# Altium schematic symbol library espardino_xpress_schematics.SchLib: 2 symbols
Pins are listed as number, name and electrical type; pins without a type are passive.

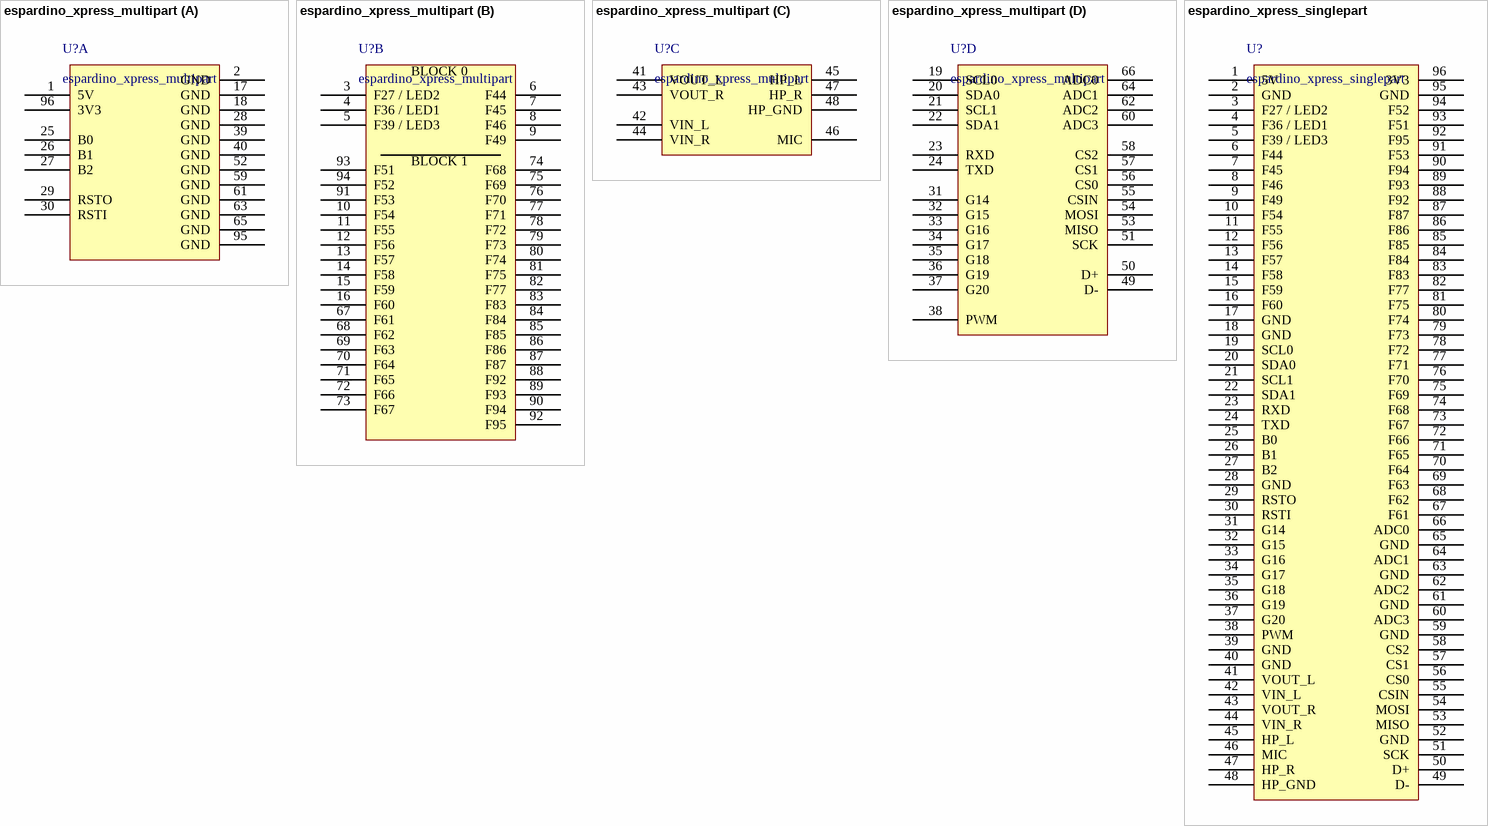
[diagram p0: symbols espardino_xpress_multipart to espardino_xpress_singlepart]

## espardino_xpress_multipart
designator U?
espardino_xpress schematic multipart
part A pins: 1 5V, 2 GND, 17 GND, 18 GND, 25 B0, 26 B1, 27 B2, 28 GND, 29 RSTO, 30 RSTI, 39 GND, 40 GND, 52 GND, 59 GND, 61 GND, 63 GND, 65 GND, 95 GND, 96 3V3
part B pins: 3 F27 / LED2, 4 F36 / LED1, 5 F39 / LED3, 6 F44, 7 F45, 8 F46, 9 F49, 10 F54, 11 F55, 12 F56, 13 F57, 14 F58, 15 F59, 16 F60, 67 F61, 68 F62, 69 F63, 70 F64, 71 F65, 72 F66, 73 F67, 74 F68, 75 F69, 76 F70, 77 F71, 78 F72, 79 F73, 80 F74, 81 F75, 82 F77, 83 F83, 84 F84, 85 F85, 86 F86, 87 F87, 88 F92, 89 F93, 90 F94, 91 F53, 92 F95, 93 F51, 94 F52
part C pins: 41 VOUT_L, 42 VIN_L, 43 VOUT_R, 44 VIN_R, 45 HP_L, 46 MIC, 47 HP_R, 48 HP_GND
part D pins: 19 SCL0, 20 SDA0, 21 SCL1, 22 SDA1, 23 RXD, 24 TXD, 31 G14, 32 G15, 33 G16, 34 G17, 35 G18, 36 G19, 37 G20, 38 PWM, 49 D-, 50 D+, 51 SCK, 53 MISO, 54 MOSI, 55 CSIN, 56 CS0, 57 CS1, 58 CS2, 60 ADC3, 62 ADC2, 64 ADC1, 66 ADC0
part B text: BLOCK 0; BLOCK 1

## espardino_xpress_singlepart
designator U?
espardino_xpress schematic singlepart
pins: 1 5V, 2 GND, 3 F27 / LED2, 4 F36 / LED1, 5 F39 / LED3, 6 F44, 7 F45, 8 F46, 9 F49, 10 F54, 11 F55, 12 F56, 13 F57, 14 F58, 15 F59, 16 F60, 17 GND, 18 GND, 19 SCL0, 20 SDA0, 21 SCL1, 22 SDA1, 23 RXD, 24 TXD, 25 B0, 26 B1, 27 B2, 28 GND, 29 RSTO, 30 RSTI, 31 G14, 32 G15, 33 G16, 34 G17, 35 G18, 36 G19, 37 G20, 38 PWM, 39 GND, 40 GND, 41 VOUT_L, 42 VIN_L, 43 VOUT_R, 44 VIN_R, 45 HP_L, 46 MIC, 47 HP_R, 48 HP_GND, 49 D-, 50 D+, 51 SCK, 52 GND, 53 MISO, 54 MOSI, 55 CSIN, 56 CS0, 57 CS1, 58 CS2, 59 GND, 60 ADC3, 61 GND, 62 ADC2, 63 GND, 64 ADC1, 65 GND, 66 ADC0, 67 F61, 68 F62, 69 F63, 70 F64, 71 F65, 72 F66, 73 F67, 74 F68, 75 F69, 76 F70, 77 F71, 78 F72, 79 F73, 80 F74, 81 F75, 82 F77, 83 F83, 84 F84, 85 F85, 86 F86, 87 F87, 88 F92, 89 F93, 90 F94, 91 F53, 92 F95, 93 F51, 94 F52, 95 GND, 96 3V3